# Altium schematic symbol library Isolator.SchLib: 419 symbols (part 4 of 5)
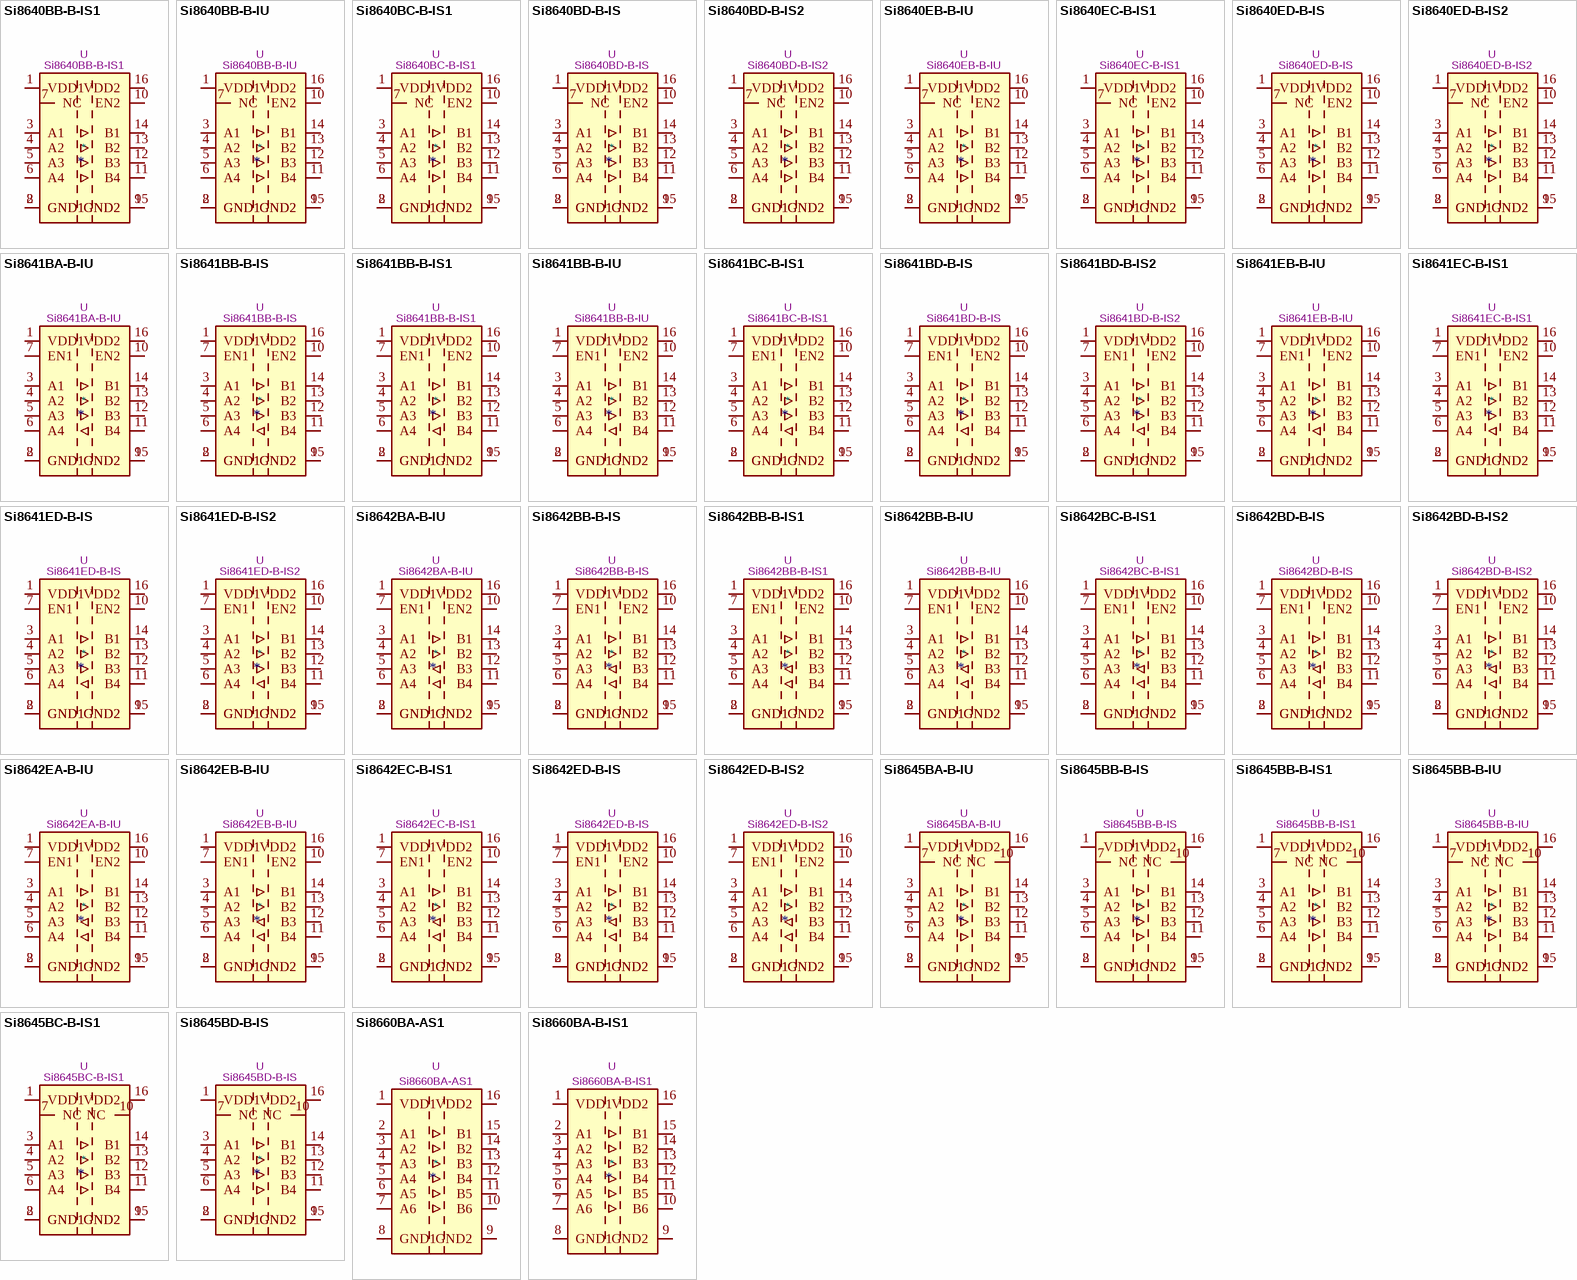
[diagram p15: symbols Si8640BB-B-IS1 to Si8660BA-B-IS1]

## Si8645BB-B-IS
designator *  value Si8645BB-B-IS  Reference: U
Low-Power Quad-Channel Digital Isolator, 150Mbps, 2.5-5.5V, 2.5kV isolation, Fail-Safe Low, SOIC-16W; ki_keywords: 4Ch 4In Quad Digital Isolator 150Mbps; ki_fp_filters: SOIC*7.5x10.3mm*P1.27mm*; Footprint: Package_SO:SOIC-16W_7.5x10.3mm_P1.27mm; Datasheet: https://www.silabs.com/documents/public/data-sheets/si864x-datasheet.pdf; Description_: Low-Power Quad-Channel Digital Isolator, 150Mbps, 2.5-5.5V, 2.5kV isolation, Fail-Safe Low, SOIC-16W
pins: 1 VDD1, 2 GND1, 3 A1, 4 A2, 5 A3, 6 A4, 7 NC, 8 GND1, 9 GND2, 10 NC, 11 B4, 12 B3, 13 B2, 14 B1, 15 GND2, 16 VDD2

## Si8645BB-B-IS1
designator *  value Si8645BB-B-IS1  Reference: U
Low-Power Quad-Channel Digital Isolator, 150Mbps, 2.5-5.5V, 2.5kV isolation, Fail-Safe Low, SOIC-16; ki_keywords: 4Ch 4In Quad Digital Isolator 150Mbps; ki_fp_filters: SOIC*3.9x9.9mm*P1.27mm*; Footprint: Package_SO:SOIC-16_3.9x9.9mm_P1.27mm; Datasheet: https://www.silabs.com/documents/public/data-sheets/si864x-datasheet.pdf; Description_: Low-Power Quad-Channel Digital Isolator, 150Mbps, 2.5-5.5V, 2.5kV isolation, Fail-Safe Low, SOIC-16
pins: 1 VDD1, 2 GND1, 3 A1, 4 A2, 5 A3, 6 A4, 7 NC, 8 GND1, 9 GND2, 10 NC, 11 B4, 12 B3, 13 B2, 14 B1, 15 GND2, 16 VDD2

## Si8645BB-B-IU
designator *  value Si8645BB-B-IU  Reference: U
Low-Power Quad-Channel Digital Isolator, 150Mbps, 2.5-5.5V, 2.5kV isolation, Fail-Safe Low, QSOP-16; ki_keywords: 4Ch 4In Quad Digital Isolator 150Mbps; ki_fp_filters: QSOP*3.9x4.9mm*P0.635mm*; Footprint: Package_SO:QSOP-16_3.9x4.9mm_P0.635mm; Datasheet: https://www.silabs.com/documents/public/data-sheets/si864x-datasheet.pdf; Description_: Low-Power Quad-Channel Digital Isolator, 150Mbps, 2.5-5.5V, 2.5kV isolation, Fail-Safe Low, QSOP-16
pins: 1 VDD1, 2 GND1, 3 A1, 4 A2, 5 A3, 6 A4, 7 NC, 8 GND1, 9 GND2, 10 NC, 11 B4, 12 B3, 13 B2, 14 B1, 15 GND2, 16 VDD2

## Si8645BC-B-IS1
designator *  value Si8645BC-B-IS1  Reference: U
Low-Power Quad-Channel Digital Isolator, 150Mbps, 2.5-5.5V, 3.75kV isolation, Fail-Safe Low, SOIC-16; ki_keywords: 4Ch 4In Quad Digital Isolator 150Mbps; ki_fp_filters: SOIC*3.9x9.9mm*P1.27mm*; Footprint: Package_SO:SOIC-16_3.9x9.9mm_P1.27mm; Datasheet: https://www.silabs.com/documents/public/data-sheets/si864x-datasheet.pdf; Description_: Low-Power Quad-Channel Digital Isolator, 150Mbps, 2.5-5.5V, 3.75kV isolation, Fail-Safe Low, SOIC-16
pins: 1 VDD1, 2 GND1, 3 A1, 4 A2, 5 A3, 6 A4, 7 NC, 8 GND1, 9 GND2, 10 NC, 11 B4, 12 B3, 13 B2, 14 B1, 15 GND2, 16 VDD2

## Si8645BD-B-IS
designator *  value Si8645BD-B-IS  Reference: U
Low-Power Quad-Channel Digital Isolator, 150Mbps, 2.5-5.5V, 5.0kV isolation, Fail-Safe Low, SOIC-16W; ki_keywords: 4Ch 4In Quad Digital Isolator 150Mbps; ki_fp_filters: SOIC*7.5x10.3mm*P1.27mm*; Footprint: Package_SO:SOIC-16W_7.5x10.3mm_P1.27mm; Datasheet: https://www.silabs.com/documents/public/data-sheets/si864x-datasheet.pdf; Description_: Low-Power Quad-Channel Digital Isolator, 150Mbps, 2.5-5.5V, 5.0kV isolation, Fail-Safe Low, SOIC-16W
pins: 1 VDD1, 2 GND1, 3 A1, 4 A2, 5 A3, 6 A4, 7 NC, 8 GND1, 9 GND2, 10 NC, 11 B4, 12 B3, 13 B2, 14 B1, 15 GND2, 16 VDD2

## Si8660BA-AS1
designator *  value Si8660BA-AS1  Reference: U
Low-Power Hex-Channel Digital Isolator, 150Mbps, 2.5-5.5V, 1kV isolation, Fail-Safe Low, SOIC-16; ki_keywords: 6Ch 6In Hex Digital Isolator 150Mbps AEC-Q100; ki_fp_filters: SOIC*3.9x9.9mm*P1.27mm*; Footprint: Package_SO:SOIC-16_3.9x9.9mm_P1.27mm; Datasheet: https://www.skyworksinc.com/-/media/Skyworks/SL/documents/public/data-sheets/Si866x.pdf; Description_: Low-Power Hex-Channel Digital Isolator, 150Mbps, 2.5-5.5V, 1kV isolation, Fail-Safe Low, SOIC-16
pins: 1 VDD1, 2 A1, 3 A2, 4 A3, 5 A4, 6 A5, 7 A6, 8 GND1, 9 GND2, 10 B6, 11 B5, 12 B4, 13 B3, 14 B2, 15 B1, 16 VDD2

## Si8660BA-B-IS1
designator *  value Si8660BA-B-IS1  Reference: U
Low-Power Hex-Channel Digital Isolator, 150Mbps, 2.5-5.5V, 1kV isolation, Fail-Safe Low, SOIC-16; ki_keywords: 6Ch 6In Hex Digital Isolator 150Mbps; ki_fp_filters: SOIC*3.9x9.9mm*P1.27mm*; Footprint: Package_SO:SOIC-16_3.9x9.9mm_P1.27mm; Datasheet: https://www.skyworksinc.com/-/media/Skyworks/SL/documents/public/data-sheets/Si866x.pdf; Description_: Low-Power Hex-Channel Digital Isolator, 150Mbps, 2.5-5.5V, 1kV isolation, Fail-Safe Low, SOIC-16
pins: 1 VDD1, 2 A1, 3 A2, 4 A3, 5 A4, 6 A5, 7 A6, 8 GND1, 9 GND2, 10 B6, 11 B5, 12 B4, 13 B3, 14 B2, 15 B1, 16 VDD2

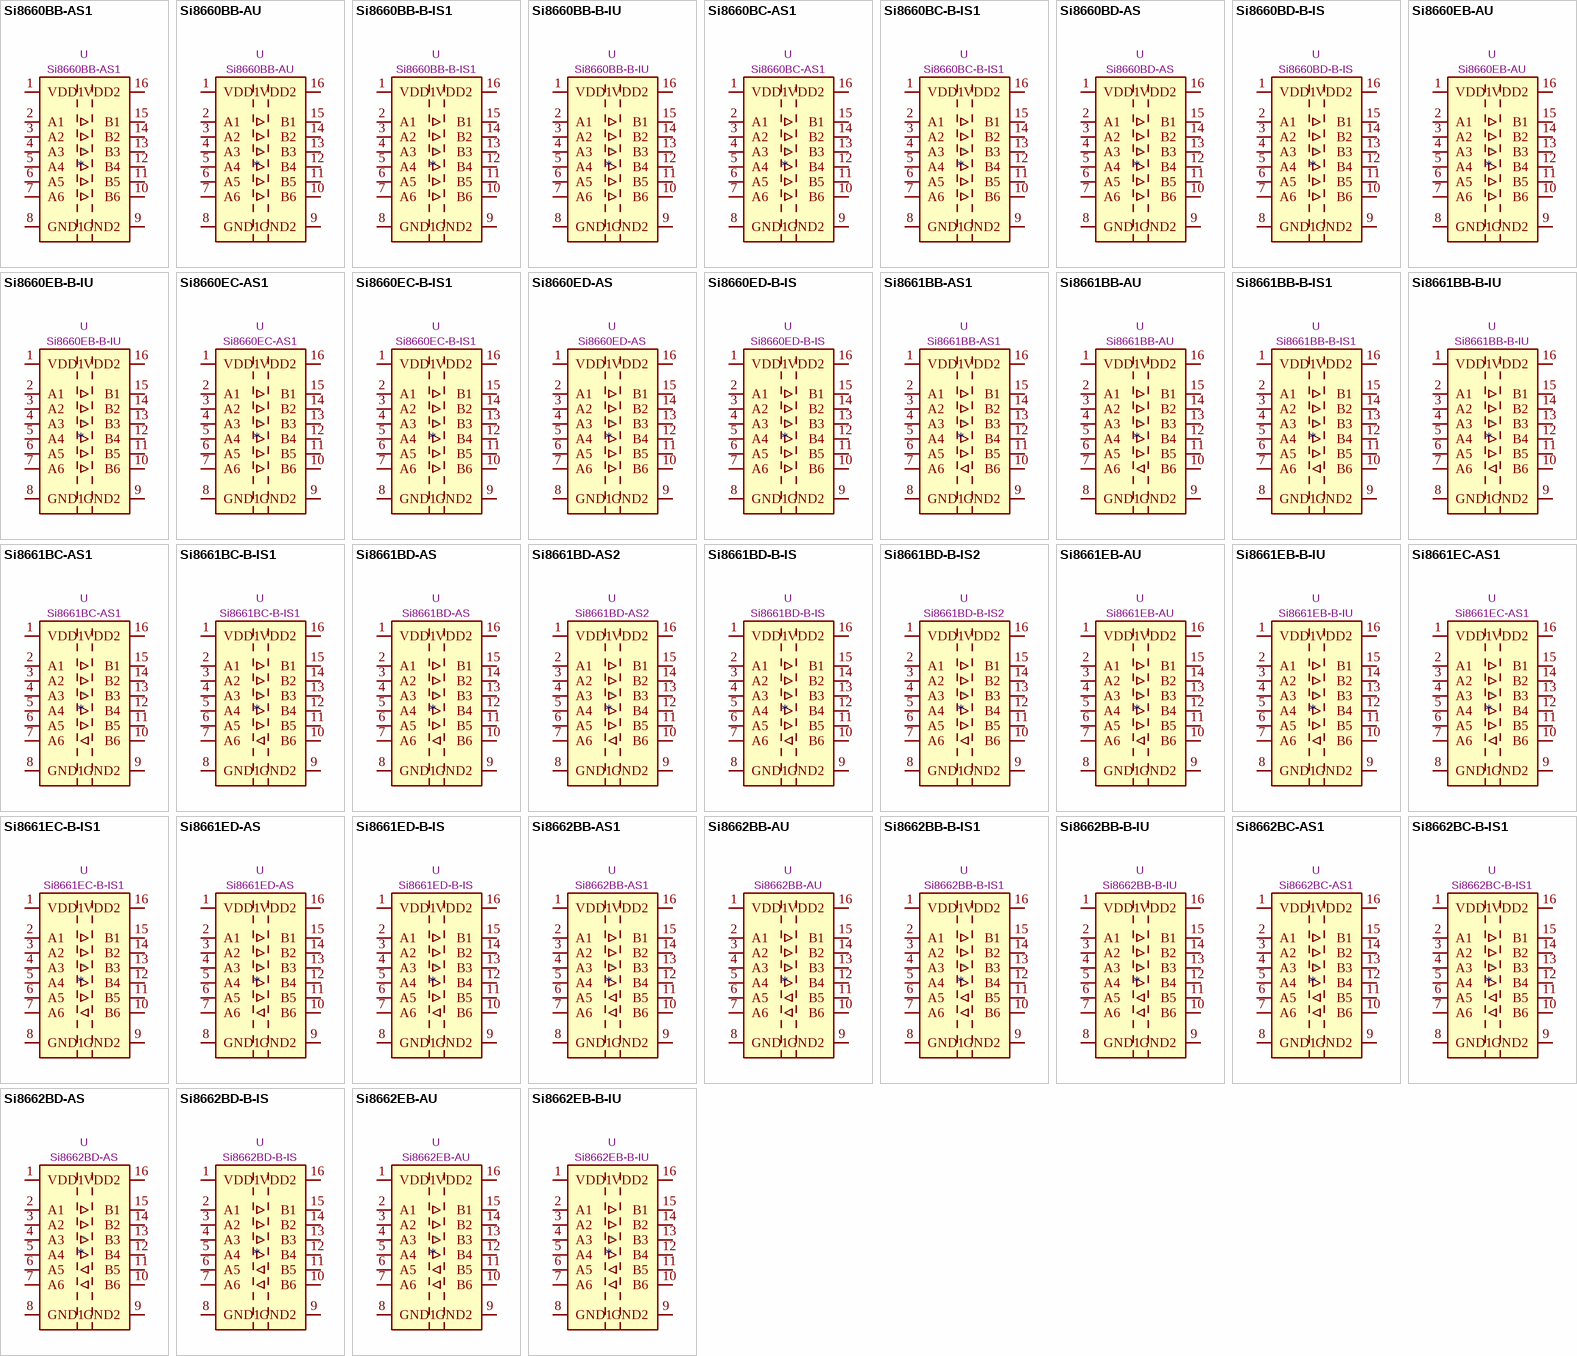
[diagram p8: symbols Si8660BB-AS1 to Si8662EB-B-IU]

## Si8660BB-AS1
designator *  value Si8660BB-AS1  Reference: U
Low-Power Hex-Channel Digital Isolator, 150Mbps, 2.5-5.5V, 2.5kV isolation, Fail-Safe Low, SOIC-16; ki_keywords: 6Ch 6In Hex Digital Isolator 150Mbps AEC-Q100; ki_fp_filters: SOIC*3.9x9.9mm*P1.27mm*; Footprint: Package_SO:SOIC-16_3.9x9.9mm_P1.27mm; Datasheet: https://www.skyworksinc.com/-/media/Skyworks/SL/documents/public/data-sheets/Si866x.pdf; Description_: Low-Power Hex-Channel Digital Isolator, 150Mbps, 2.5-5.5V, 2.5kV isolation, Fail-Safe Low, SOIC-16
pins: 1 VDD1, 2 A1, 3 A2, 4 A3, 5 A4, 6 A5, 7 A6, 8 GND1, 9 GND2, 10 B6, 11 B5, 12 B4, 13 B3, 14 B2, 15 B1, 16 VDD2

## Si8660BB-AU
designator *  value Si8660BB-AU  Reference: U
Low-Power Hex-Channel Digital Isolator, 150Mbps, 2.5-5.5V, 2.5kV isolation, Fail-Safe Low, QSOP-16; ki_keywords: 6Ch 6In Hex Digital Isolator 150Mbps AEC-Q100; ki_fp_filters: QSOP*3.9x4.9mm*P0.635mm*; Footprint: Package_SO:QSOP-16_3.9x4.9mm_P0.635mm; Datasheet: https://www.skyworksinc.com/-/media/Skyworks/SL/documents/public/data-sheets/Si866x.pdf; Description_: Low-Power Hex-Channel Digital Isolator, 150Mbps, 2.5-5.5V, 2.5kV isolation, Fail-Safe Low, QSOP-16
pins: 1 VDD1, 2 A1, 3 A2, 4 A3, 5 A4, 6 A5, 7 A6, 8 GND1, 9 GND2, 10 B6, 11 B5, 12 B4, 13 B3, 14 B2, 15 B1, 16 VDD2

## Si8660BB-B-IS1
designator *  value Si8660BB-B-IS1  Reference: U
Low-Power Hex-Channel Digital Isolator, 150Mbps, 2.5-5.5V, 2.5kV isolation, Fail-Safe Low, SOIC-16; ki_keywords: 6Ch 6In Hex Digital Isolator 150Mbps; ki_fp_filters: SOIC*3.9x9.9mm*P1.27mm*; Footprint: Package_SO:SOIC-16_3.9x9.9mm_P1.27mm; Datasheet: https://www.skyworksinc.com/-/media/Skyworks/SL/documents/public/data-sheets/Si866x.pdf; Description_: Low-Power Hex-Channel Digital Isolator, 150Mbps, 2.5-5.5V, 2.5kV isolation, Fail-Safe Low, SOIC-16
pins: 1 VDD1, 2 A1, 3 A2, 4 A3, 5 A4, 6 A5, 7 A6, 8 GND1, 9 GND2, 10 B6, 11 B5, 12 B4, 13 B3, 14 B2, 15 B1, 16 VDD2

## Si8660BB-B-IU
designator *  value Si8660BB-B-IU  Reference: U
Low-Power Hex-Channel Digital Isolator, 150Mbps, 2.5-5.5V, 2.5kV isolation, Fail-Safe Low, QSOP-16; ki_keywords: 6Ch 6In Hex Digital Isolator 150Mbps; ki_fp_filters: QSOP*3.9x4.9mm*P0.635mm*; Footprint: Package_SO:QSOP-16_3.9x4.9mm_P0.635mm; Datasheet: https://www.skyworksinc.com/-/media/Skyworks/SL/documents/public/data-sheets/Si866x.pdf; Description_: Low-Power Hex-Channel Digital Isolator, 150Mbps, 2.5-5.5V, 2.5kV isolation, Fail-Safe Low, QSOP-16
pins: 1 VDD1, 2 A1, 3 A2, 4 A3, 5 A4, 6 A5, 7 A6, 8 GND1, 9 GND2, 10 B6, 11 B5, 12 B4, 13 B3, 14 B2, 15 B1, 16 VDD2

## Si8660BC-AS1
designator *  value Si8660BC-AS1  Reference: U
Low-Power Hex-Channel Digital Isolator, 150Mbps, 2.5-5.5V, 3.75kV isolation, Fail-Safe Low, SOIC-16; ki_keywords: 6Ch 6In Hex Digital Isolator 150Mbps AEC-Q100; ki_fp_filters: SOIC*3.9x9.9mm*P1.27mm*; Footprint: Package_SO:SOIC-16_3.9x9.9mm_P1.27mm; Datasheet: https://www.skyworksinc.com/-/media/Skyworks/SL/documents/public/data-sheets/Si866x.pdf; Description_: Low-Power Hex-Channel Digital Isolator, 150Mbps, 2.5-5.5V, 3.75kV isolation, Fail-Safe Low, SOIC-16
pins: 1 VDD1, 2 A1, 3 A2, 4 A3, 5 A4, 6 A5, 7 A6, 8 GND1, 9 GND2, 10 B6, 11 B5, 12 B4, 13 B3, 14 B2, 15 B1, 16 VDD2

## Si8660BC-B-IS1
designator *  value Si8660BC-B-IS1  Reference: U
Low-Power Hex-Channel Digital Isolator, 150Mbps, 2.5-5.5V, 3.75kV isolation, Fail-Safe Low, SOIC-16; ki_keywords: 6Ch 6In Hex Digital Isolator 150Mbps; ki_fp_filters: SOIC*3.9x9.9mm*P1.27mm*; Footprint: Package_SO:SOIC-16_3.9x9.9mm_P1.27mm; Datasheet: https://www.skyworksinc.com/-/media/Skyworks/SL/documents/public/data-sheets/Si866x.pdf; Description_: Low-Power Hex-Channel Digital Isolator, 150Mbps, 2.5-5.5V, 3.75kV isolation, Fail-Safe Low, SOIC-16
pins: 1 VDD1, 2 A1, 3 A2, 4 A3, 5 A4, 6 A5, 7 A6, 8 GND1, 9 GND2, 10 B6, 11 B5, 12 B4, 13 B3, 14 B2, 15 B1, 16 VDD2

## Si8660BD-AS
designator *  value Si8660BD-AS  Reference: U
Low-Power Hex-Channel Digital Isolator, 150Mbps, 2.5-5.5V, 5kV isolation, Fail-Safe Low, SOIC-16W; ki_keywords: 6Ch 6In Hex Digital Isolator 150Mbps AEC-Q100; ki_fp_filters: SOIC*7.5x10.3mm*P1.27mm*; Footprint: Package_SO:SOIC-16W_7.5x10.3mm_P1.27mm; Datasheet: https://www.skyworksinc.com/-/media/Skyworks/SL/documents/public/data-sheets/Si866x.pdf; Description_: Low-Power Hex-Channel Digital Isolator, 150Mbps, 2.5-5.5V, 5kV isolation, Fail-Safe Low, SOIC-16W
pins: 1 VDD1, 2 A1, 3 A2, 4 A3, 5 A4, 6 A5, 7 A6, 8 GND1, 9 GND2, 10 B6, 11 B5, 12 B4, 13 B3, 14 B2, 15 B1, 16 VDD2

## Si8660BD-B-IS
designator *  value Si8660BD-B-IS  Reference: U
Low-Power Hex-Channel Digital Isolator, 150Mbps, 2.5-5.5V, 5kV isolation, Fail-Safe Low, SOIC-16W; ki_keywords: 6Ch 6In Hex Digital Isolator 150Mbps; ki_fp_filters: SOIC*7.5x10.3mm*P1.27mm*; Footprint: Package_SO:SOIC-16W_7.5x10.3mm_P1.27mm; Datasheet: https://www.skyworksinc.com/-/media/Skyworks/SL/documents/public/data-sheets/Si866x.pdf; Description_: Low-Power Hex-Channel Digital Isolator, 150Mbps, 2.5-5.5V, 5kV isolation, Fail-Safe Low, SOIC-16W
pins: 1 VDD1, 2 A1, 3 A2, 4 A3, 5 A4, 6 A5, 7 A6, 8 GND1, 9 GND2, 10 B6, 11 B5, 12 B4, 13 B3, 14 B2, 15 B1, 16 VDD2

## Si8660EB-AU
designator *  value Si8660EB-AU  Reference: U
Low-Power Hex-Channel Digital Isolator, 150Mbps, 2.5-5.5V, 2.5kV isolation, Fail-Safe High, QSOP-16; ki_keywords: 6Ch 6In Hex Digital Isolator 150Mbps AEC-Q100; ki_fp_filters: QSOP*3.9x4.9mm*P0.635mm*; Footprint: Package_SO:QSOP-16_3.9x4.9mm_P0.635mm; Datasheet: https://www.skyworksinc.com/-/media/Skyworks/SL/documents/public/data-sheets/Si866x.pdf; Description_: Low-Power Hex-Channel Digital Isolator, 150Mbps, 2.5-5.5V, 2.5kV isolation, Fail-Safe High, QSOP-16
pins: 1 VDD1, 2 A1, 3 A2, 4 A3, 5 A4, 6 A5, 7 A6, 8 GND1, 9 GND2, 10 B6, 11 B5, 12 B4, 13 B3, 14 B2, 15 B1, 16 VDD2

## Si8660EB-B-IU
designator *  value Si8660EB-B-IU  Reference: U
Low-Power Hex-Channel Digital Isolator, 150Mbps, 2.5-5.5V, 2.5kV isolation, Fail-Safe High, QSOP-16; ki_keywords: 6Ch 6In Hex Digital Isolator 150Mbps; ki_fp_filters: QSOP*3.9x4.9mm*P0.635mm*; Footprint: Package_SO:QSOP-16_3.9x4.9mm_P0.635mm; Datasheet: https://www.skyworksinc.com/-/media/Skyworks/SL/documents/public/data-sheets/Si866x.pdf; Description_: Low-Power Hex-Channel Digital Isolator, 150Mbps, 2.5-5.5V, 2.5kV isolation, Fail-Safe High, QSOP-16
pins: 1 VDD1, 2 A1, 3 A2, 4 A3, 5 A4, 6 A5, 7 A6, 8 GND1, 9 GND2, 10 B6, 11 B5, 12 B4, 13 B3, 14 B2, 15 B1, 16 VDD2

## Si8660EC-AS1
designator *  value Si8660EC-AS1  Reference: U
Low-Power Hex-Channel Digital Isolator, 150Mbps, 2.5-5.5V, 3.75kV isolation, Fail-Safe High, SOIC-16; ki_keywords: 6Ch 6In Hex Digital Isolator 150Mbps AEC-Q100; ki_fp_filters: SOIC*3.9x9.9mm*P1.27mm*; Footprint: Package_SO:SOIC-16_3.9x9.9mm_P1.27mm; Datasheet: https://www.skyworksinc.com/-/media/Skyworks/SL/documents/public/data-sheets/Si866x.pdf; Description_: Low-Power Hex-Channel Digital Isolator, 150Mbps, 2.5-5.5V, 3.75kV isolation, Fail-Safe High, SOIC-16
pins: 1 VDD1, 2 A1, 3 A2, 4 A3, 5 A4, 6 A5, 7 A6, 8 GND1, 9 GND2, 10 B6, 11 B5, 12 B4, 13 B3, 14 B2, 15 B1, 16 VDD2

## Si8660EC-B-IS1
designator *  value Si8660EC-B-IS1  Reference: U
Low-Power Hex-Channel Digital Isolator, 150Mbps, 2.5-5.5V, 3.75kV isolation, Fail-Safe High, SOIC-16; ki_keywords: 6Ch 6In Hex Digital Isolator 150Mbps; ki_fp_filters: SOIC*3.9x9.9mm*P1.27mm*; Footprint: Package_SO:SOIC-16_3.9x9.9mm_P1.27mm; Datasheet: https://www.skyworksinc.com/-/media/Skyworks/SL/documents/public/data-sheets/Si866x.pdf; Description_: Low-Power Hex-Channel Digital Isolator, 150Mbps, 2.5-5.5V, 3.75kV isolation, Fail-Safe High, SOIC-16
pins: 1 VDD1, 2 A1, 3 A2, 4 A3, 5 A4, 6 A5, 7 A6, 8 GND1, 9 GND2, 10 B6, 11 B5, 12 B4, 13 B3, 14 B2, 15 B1, 16 VDD2

## Si8660ED-AS
designator *  value Si8660ED-AS  Reference: U
Low-Power Hex-Channel Digital Isolator, 150Mbps, 2.5-5.5V, 5kV isolation, Fail-Safe High, SOIC-16W; ki_keywords: 6Ch 6In Hex Digital Isolator 150Mbps AEC-Q100; ki_fp_filters: SOIC*7.5x10.3mm*P1.27mm*; Footprint: Package_SO:SOIC-16W_7.5x10.3mm_P1.27mm; Datasheet: https://www.skyworksinc.com/-/media/Skyworks/SL/documents/public/data-sheets/Si866x.pdf; Description_: Low-Power Hex-Channel Digital Isolator, 150Mbps, 2.5-5.5V, 5kV isolation, Fail-Safe High, SOIC-16W
pins: 1 VDD1, 2 A1, 3 A2, 4 A3, 5 A4, 6 A5, 7 A6, 8 GND1, 9 GND2, 10 B6, 11 B5, 12 B4, 13 B3, 14 B2, 15 B1, 16 VDD2

## Si8660ED-B-IS
designator *  value Si8660ED-B-IS  Reference: U
Low-Power Hex-Channel Digital Isolator, 150Mbps, 2.5-5.5V, 5kV isolation, Fail-Safe High, SOIC-16W; ki_keywords: 6Ch 6In Hex Digital Isolator 150Mbps; ki_fp_filters: SOIC*7.5x10.3mm*P1.27mm*; Footprint: Package_SO:SOIC-16W_7.5x10.3mm_P1.27mm; Datasheet: https://www.skyworksinc.com/-/media/Skyworks/SL/documents/public/data-sheets/Si866x.pdf; Description_: Low-Power Hex-Channel Digital Isolator, 150Mbps, 2.5-5.5V, 5kV isolation, Fail-Safe High, SOIC-16W
pins: 1 VDD1, 2 A1, 3 A2, 4 A3, 5 A4, 6 A5, 7 A6, 8 GND1, 9 GND2, 10 B6, 11 B5, 12 B4, 13 B3, 14 B2, 15 B1, 16 VDD2

## Si8661BB-AS1
designator *  value Si8661BB-AS1  Reference: U
Low-Power Hex-Channel Digital Isolator, 150Mbps, 2.5-5.5V, 2.5kV isolation, Fail-Safe Low, SOIC-16; ki_keywords: 6Ch 5In 1Out Hex Digital Isolator 150Mbps AEC-Q100; ki_fp_filters: SOIC*3.9x9.9mm*P1.27mm*; Footprint: Package_SO:SOIC-16_3.9x9.9mm_P1.27mm; Datasheet: https://www.skyworksinc.com/-/media/Skyworks/SL/documents/public/data-sheets/Si866x.pdf; Description_: Low-Power Hex-Channel Digital Isolator, 150Mbps, 2.5-5.5V, 2.5kV isolation, Fail-Safe Low, SOIC-16
pins: 1 VDD1, 2 A1, 3 A2, 4 A3, 5 A4, 6 A5, 7 A6, 8 GND1, 9 GND2, 10 B6, 11 B5, 12 B4, 13 B3, 14 B2, 15 B1, 16 VDD2

## Si8661BB-AU
designator *  value Si8661BB-AU  Reference: U
Low-Power Hex-Channel Digital Isolator, 150Mbps, 2.5-5.5V, 2.5kV isolation, Fail-Safe Low, QSOP-16; ki_keywords: 6Ch 5In 1Out Hex Digital Isolator 150Mbps AEC-Q100; ki_fp_filters: QSOP*3.9x4.9mm*P0.635mm*; Footprint: Package_SO:QSOP-16_3.9x4.9mm_P0.635mm; Datasheet: https://www.skyworksinc.com/-/media/Skyworks/SL/documents/public/data-sheets/Si866x.pdf; Description_: Low-Power Hex-Channel Digital Isolator, 150Mbps, 2.5-5.5V, 2.5kV isolation, Fail-Safe Low, QSOP-16
pins: 1 VDD1, 2 A1, 3 A2, 4 A3, 5 A4, 6 A5, 7 A6, 8 GND1, 9 GND2, 10 B6, 11 B5, 12 B4, 13 B3, 14 B2, 15 B1, 16 VDD2

## Si8661BB-B-IS1
designator *  value Si8661BB-B-IS1  Reference: U
Low-Power Hex-Channel Digital Isolator, 150Mbps, 2.5-5.5V, 2.5kV isolation, Fail-Safe Low, SOIC-16; ki_keywords: 6Ch 5In 1Out Hex Digital Isolator 150Mbps; ki_fp_filters: SOIC*3.9x9.9mm*P1.27mm*; Footprint: Package_SO:SOIC-16_3.9x9.9mm_P1.27mm; Datasheet: https://www.skyworksinc.com/-/media/Skyworks/SL/documents/public/data-sheets/Si866x.pdf; Description_: Low-Power Hex-Channel Digital Isolator, 150Mbps, 2.5-5.5V, 2.5kV isolation, Fail-Safe Low, SOIC-16
pins: 1 VDD1, 2 A1, 3 A2, 4 A3, 5 A4, 6 A5, 7 A6, 8 GND1, 9 GND2, 10 B6, 11 B5, 12 B4, 13 B3, 14 B2, 15 B1, 16 VDD2

## Si8661BB-B-IU
designator *  value Si8661BB-B-IU  Reference: U
Low-Power Hex-Channel Digital Isolator, 150Mbps, 2.5-5.5V, 2.5kV isolation, Fail-Safe Low, QSOP-16; ki_keywords: 6Ch 5In 1Out Hex Digital Isolator 150Mbps; ki_fp_filters: QSOP*3.9x4.9mm*P0.635mm*; Footprint: Package_SO:QSOP-16_3.9x4.9mm_P0.635mm; Datasheet: https://www.skyworksinc.com/-/media/Skyworks/SL/documents/public/data-sheets/Si866x.pdf; Description_: Low-Power Hex-Channel Digital Isolator, 150Mbps, 2.5-5.5V, 2.5kV isolation, Fail-Safe Low, QSOP-16
pins: 1 VDD1, 2 A1, 3 A2, 4 A3, 5 A4, 6 A5, 7 A6, 8 GND1, 9 GND2, 10 B6, 11 B5, 12 B4, 13 B3, 14 B2, 15 B1, 16 VDD2

## Si8661BC-AS1
designator *  value Si8661BC-AS1  Reference: U
Low-Power Hex-Channel Digital Isolator, 150Mbps, 2.5-5.5V, 3.75kV isolation, Fail-Safe Low, SOIC-16; ki_keywords: 6Ch 5In 1Out Hex Digital Isolator 150Mbps AEC-Q100; ki_fp_filters: SOIC*3.9x9.9mm*P1.27mm*; Footprint: Package_SO:SOIC-16_3.9x9.9mm_P1.27mm; Datasheet: https://www.skyworksinc.com/-/media/Skyworks/SL/documents/public/data-sheets/Si866x.pdf; Description_: Low-Power Hex-Channel Digital Isolator, 150Mbps, 2.5-5.5V, 3.75kV isolation, Fail-Safe Low, SOIC-16
pins: 1 VDD1, 2 A1, 3 A2, 4 A3, 5 A4, 6 A5, 7 A6, 8 GND1, 9 GND2, 10 B6, 11 B5, 12 B4, 13 B3, 14 B2, 15 B1, 16 VDD2

## Si8661BC-B-IS1
designator *  value Si8661BC-B-IS1  Reference: U
Low-Power Hex-Channel Digital Isolator, 150Mbps, 2.5-5.5V, 3.75kV isolation, Fail-Safe Low, SOIC-16; ki_keywords: 6Ch 5In 1Out Hex Digital Isolator 150Mbps; ki_fp_filters: SOIC*3.9x9.9mm*P1.27mm*; Footprint: Package_SO:SOIC-16_3.9x9.9mm_P1.27mm; Datasheet: https://www.skyworksinc.com/-/media/Skyworks/SL/documents/public/data-sheets/Si866x.pdf; Description_: Low-Power Hex-Channel Digital Isolator, 150Mbps, 2.5-5.5V, 3.75kV isolation, Fail-Safe Low, SOIC-16
pins: 1 VDD1, 2 A1, 3 A2, 4 A3, 5 A4, 6 A5, 7 A6, 8 GND1, 9 GND2, 10 B6, 11 B5, 12 B4, 13 B3, 14 B2, 15 B1, 16 VDD2

## Si8661BD-AS
designator *  value Si8661BD-AS  Reference: U
Low-Power Hex-Channel Digital Isolator, 150Mbps, 2.5-5.5V, 5kV isolation, Fail-Safe Low, SOIC-16W; ki_keywords: 6Ch 5In 1Out Hex Digital Isolator 150Mbps AEC-Q100; ki_fp_filters: SOIC*7.5x10.3mm*P1.27mm*; Footprint: Package_SO:SOIC-16W_7.5x10.3mm_P1.27mm; Datasheet: https://www.skyworksinc.com/-/media/Skyworks/SL/documents/public/data-sheets/Si866x.pdf; Description_: Low-Power Hex-Channel Digital Isolator, 150Mbps, 2.5-5.5V, 5kV isolation, Fail-Safe Low, SOIC-16W
pins: 1 VDD1, 2 A1, 3 A2, 4 A3, 5 A4, 6 A5, 7 A6, 8 GND1, 9 GND2, 10 B6, 11 B5, 12 B4, 13 B3, 14 B2, 15 B1, 16 VDD2

## Si8661BD-AS2
designator *  value Si8661BD-AS2  Reference: U
Low-Power Hex-Channel Digital Isolator, 150Mbps, 2.5-5.5V, 5kV isolation, Fail-Safe Low, 8mm creepage, SOIC-16W; ki_keywords: 6Ch 5In 1Out Hex Digital Isolator 150Mbps AEC-Q100; ki_fp_filters: SOIC*7.5x10.3mm*P1.27mm*; Footprint: Package_SO:SOIC-16W_7.5x10.3mm_P1.27mm; Datasheet: https://www.skyworksinc.com/-/media/Skyworks/SL/documents/public/data-sheets/Si866x.pdf; Description_: Low-Power Hex-Channel Digital Isolator, 150Mbps, 2.5-5.5V, 5kV isolation, Fail-Safe Low, 8mm creepage, SOIC-16W
pins: 1 VDD1, 2 A1, 3 A2, 4 A3, 5 A4, 6 A5, 7 A6, 8 GND1, 9 GND2, 10 B6, 11 B5, 12 B4, 13 B3, 14 B2, 15 B1, 16 VDD2

## Si8661BD-B-IS
designator *  value Si8661BD-B-IS  Reference: U
Low-Power Hex-Channel Digital Isolator, 150Mbps, 2.5-5.5V, 5kV isolation, Fail-Safe Low, SOIC-16W; ki_keywords: 6Ch 5In 1Out Hex Digital Isolator 150Mbps; ki_fp_filters: SOIC*7.5x10.3mm*P1.27mm*; Footprint: Package_SO:SOIC-16W_7.5x10.3mm_P1.27mm; Datasheet: https://www.skyworksinc.com/-/media/Skyworks/SL/documents/public/data-sheets/Si866x.pdf; Description_: Low-Power Hex-Channel Digital Isolator, 150Mbps, 2.5-5.5V, 5kV isolation, Fail-Safe Low, SOIC-16W
pins: 1 VDD1, 2 A1, 3 A2, 4 A3, 5 A4, 6 A5, 7 A6, 8 GND1, 9 GND2, 10 B6, 11 B5, 12 B4, 13 B3, 14 B2, 15 B1, 16 VDD2

## Si8661BD-B-IS2
designator *  value Si8661BD-B-IS2  Reference: U
Low-Power Hex-Channel Digital Isolator, 150Mbps, 2.5-5.5V, 5kV isolation, Fail-Safe Low, 8mm creepage, SOIC-16W; ki_keywords: 6Ch 5In 1Out Hex Digital Isolator 150Mbps; ki_fp_filters: SOIC*7.5x10.3mm*P1.27mm*; Footprint: Package_SO:SOIC-16W_7.5x10.3mm_P1.27mm; Datasheet: https://www.skyworksinc.com/-/media/Skyworks/SL/documents/public/data-sheets/Si866x.pdf; Description_: Low-Power Hex-Channel Digital Isolator, 150Mbps, 2.5-5.5V, 5kV isolation, Fail-Safe Low, 8mm creepage, SOIC-16W
pins: 1 VDD1, 2 A1, 3 A2, 4 A3, 5 A4, 6 A5, 7 A6, 8 GND1, 9 GND2, 10 B6, 11 B5, 12 B4, 13 B3, 14 B2, 15 B1, 16 VDD2

## Si8661EB-AU
designator *  value Si8661EB-AU  Reference: U
Low-Power Hex-Channel Digital Isolator, 150Mbps, 2.5-5.5V, 2.5kV isolation, Fail-Safe High, QSOP-16; ki_keywords: 6Ch 5In 1Out Hex Digital Isolator 150Mbps AEC-Q100; ki_fp_filters: QSOP*3.9x4.9mm*P0.635mm*; Footprint: Package_SO:QSOP-16_3.9x4.9mm_P0.635mm; Datasheet: https://www.skyworksinc.com/-/media/Skyworks/SL/documents/public/data-sheets/Si866x.pdf; Description_: Low-Power Hex-Channel Digital Isolator, 150Mbps, 2.5-5.5V, 2.5kV isolation, Fail-Safe High, QSOP-16
pins: 1 VDD1, 2 A1, 3 A2, 4 A3, 5 A4, 6 A5, 7 A6, 8 GND1, 9 GND2, 10 B6, 11 B5, 12 B4, 13 B3, 14 B2, 15 B1, 16 VDD2

## Si8661EB-B-IU
designator *  value Si8661EB-B-IU  Reference: U
Low-Power Hex-Channel Digital Isolator, 150Mbps, 2.5-5.5V, 2.5kV isolation, Fail-Safe High, QSOP-16; ki_keywords: 6Ch 5In 1Out Hex Digital Isolator 150Mbps; ki_fp_filters: QSOP*3.9x4.9mm*P0.635mm*; Footprint: Package_SO:QSOP-16_3.9x4.9mm_P0.635mm; Datasheet: https://www.skyworksinc.com/-/media/Skyworks/SL/documents/public/data-sheets/Si866x.pdf; Description_: Low-Power Hex-Channel Digital Isolator, 150Mbps, 2.5-5.5V, 2.5kV isolation, Fail-Safe High, QSOP-16
pins: 1 VDD1, 2 A1, 3 A2, 4 A3, 5 A4, 6 A5, 7 A6, 8 GND1, 9 GND2, 10 B6, 11 B5, 12 B4, 13 B3, 14 B2, 15 B1, 16 VDD2

## Si8661EC-AS1
designator *  value Si8661EC-AS1  Reference: U
Low-Power Hex-Channel Digital Isolator, 150Mbps, 2.5-5.5V, 3.75kV isolation, Fail-Safe High, SOIC-16; ki_keywords: 6Ch 5In 1Out Hex Digital Isolator 150Mbps AEC-Q100; ki_fp_filters: SOIC*3.9x9.9mm*P1.27mm*; Footprint: Package_SO:SOIC-16_3.9x9.9mm_P1.27mm; Datasheet: https://www.skyworksinc.com/-/media/Skyworks/SL/documents/public/data-sheets/Si866x.pdf; Description_: Low-Power Hex-Channel Digital Isolator, 150Mbps, 2.5-5.5V, 3.75kV isolation, Fail-Safe High, SOIC-16
pins: 1 VDD1, 2 A1, 3 A2, 4 A3, 5 A4, 6 A5, 7 A6, 8 GND1, 9 GND2, 10 B6, 11 B5, 12 B4, 13 B3, 14 B2, 15 B1, 16 VDD2

## Si8661EC-B-IS1
designator *  value Si8661EC-B-IS1  Reference: U
Low-Power Hex-Channel Digital Isolator, 150Mbps, 2.5-5.5V, 3.75kV isolation, Fail-Safe High, SOIC-16; ki_keywords: 6Ch 5In 1Out Hex Digital Isolator 150Mbps; ki_fp_filters: SOIC*3.9x9.9mm*P1.27mm*; Footprint: Package_SO:SOIC-16_3.9x9.9mm_P1.27mm; Datasheet: https://www.skyworksinc.com/-/media/Skyworks/SL/documents/public/data-sheets/Si866x.pdf; Description_: Low-Power Hex-Channel Digital Isolator, 150Mbps, 2.5-5.5V, 3.75kV isolation, Fail-Safe High, SOIC-16
pins: 1 VDD1, 2 A1, 3 A2, 4 A3, 5 A4, 6 A5, 7 A6, 8 GND1, 9 GND2, 10 B6, 11 B5, 12 B4, 13 B3, 14 B2, 15 B1, 16 VDD2

## Si8661ED-AS
designator *  value Si8661ED-AS  Reference: U
Low-Power Hex-Channel Digital Isolator, 150Mbps, 2.5-5.5V, 5kV isolation, Fail-Safe High, SOIC-16W; ki_keywords: 6Ch 5In 1Out Hex Digital Isolator 150Mbps AEC-Q100; ki_fp_filters: SOIC*7.5x10.3mm*P1.27mm*; Footprint: Package_SO:SOIC-16W_7.5x10.3mm_P1.27mm; Datasheet: https://www.skyworksinc.com/-/media/Skyworks/SL/documents/public/data-sheets/Si866x.pdf; Description_: Low-Power Hex-Channel Digital Isolator, 150Mbps, 2.5-5.5V, 5kV isolation, Fail-Safe High, SOIC-16W
pins: 1 VDD1, 2 A1, 3 A2, 4 A3, 5 A4, 6 A5, 7 A6, 8 GND1, 9 GND2, 10 B6, 11 B5, 12 B4, 13 B3, 14 B2, 15 B1, 16 VDD2

## Si8661ED-B-IS
designator *  value Si8661ED-B-IS  Reference: U
Low-Power Hex-Channel Digital Isolator, 150Mbps, 2.5-5.5V, 5kV isolation, Fail-Safe High, SOIC-16W; ki_keywords: 6Ch 5In 1Out Hex Digital Isolator 150Mbps; ki_fp_filters: SOIC*7.5x10.3mm*P1.27mm*; Footprint: Package_SO:SOIC-16W_7.5x10.3mm_P1.27mm; Datasheet: https://www.skyworksinc.com/-/media/Skyworks/SL/documents/public/data-sheets/Si866x.pdf; Description_: Low-Power Hex-Channel Digital Isolator, 150Mbps, 2.5-5.5V, 5kV isolation, Fail-Safe High, SOIC-16W
pins: 1 VDD1, 2 A1, 3 A2, 4 A3, 5 A4, 6 A5, 7 A6, 8 GND1, 9 GND2, 10 B6, 11 B5, 12 B4, 13 B3, 14 B2, 15 B1, 16 VDD2

## Si8662BB-AS1
designator *  value Si8662BB-AS1  Reference: U
Low-Power Hex-Channel Digital Isolator, 150Mbps, 2.5-5.5V, 2.5kV isolation, Fail-Safe Low, SOIC-16; ki_keywords: 6Ch 4In 2Out Hex Digital Isolator 150Mbps AEC-Q100; ki_fp_filters: SOIC*3.9x9.9mm*P1.27mm*; Footprint: Package_SO:SOIC-16_3.9x9.9mm_P1.27mm; Datasheet: https://www.skyworksinc.com/-/media/Skyworks/SL/documents/public/data-sheets/Si866x.pdf; Description_: Low-Power Hex-Channel Digital Isolator, 150Mbps, 2.5-5.5V, 2.5kV isolation, Fail-Safe Low, SOIC-16
pins: 1 VDD1, 2 A1, 3 A2, 4 A3, 5 A4, 6 A5, 7 A6, 8 GND1, 9 GND2, 10 B6, 11 B5, 12 B4, 13 B3, 14 B2, 15 B1, 16 VDD2

## Si8662BB-AU
designator *  value Si8662BB-AU  Reference: U
Low-Power Hex-Channel Digital Isolator, 150Mbps, 2.5-5.5V, 2.5kV isolation, Fail-Safe Low, QSOP-16; ki_keywords: 6Ch 4In 2Out Hex Digital Isolator 150Mbps AEC-Q100; ki_fp_filters: QSOP*3.9x4.9mm*P0.635mm*; Footprint: Package_SO:QSOP-16_3.9x4.9mm_P0.635mm; Datasheet: https://www.skyworksinc.com/-/media/Skyworks/SL/documents/public/data-sheets/Si866x.pdf; Description_: Low-Power Hex-Channel Digital Isolator, 150Mbps, 2.5-5.5V, 2.5kV isolation, Fail-Safe Low, QSOP-16
pins: 1 VDD1, 2 A1, 3 A2, 4 A3, 5 A4, 6 A5, 7 A6, 8 GND1, 9 GND2, 10 B6, 11 B5, 12 B4, 13 B3, 14 B2, 15 B1, 16 VDD2

## Si8662BB-B-IS1
designator *  value Si8662BB-B-IS1  Reference: U
Low-Power Hex-Channel Digital Isolator, 150Mbps, 2.5-5.5V, 2.5kV isolation, Fail-Safe Low, SOIC-16; ki_keywords: 6Ch 4In 2Out Hex Digital Isolator 150Mbps; ki_fp_filters: SOIC*3.9x9.9mm*P1.27mm*; Footprint: Package_SO:SOIC-16_3.9x9.9mm_P1.27mm; Datasheet: https://www.skyworksinc.com/-/media/Skyworks/SL/documents/public/data-sheets/Si866x.pdf; Description_: Low-Power Hex-Channel Digital Isolator, 150Mbps, 2.5-5.5V, 2.5kV isolation, Fail-Safe Low, SOIC-16
pins: 1 VDD1, 2 A1, 3 A2, 4 A3, 5 A4, 6 A5, 7 A6, 8 GND1, 9 GND2, 10 B6, 11 B5, 12 B4, 13 B3, 14 B2, 15 B1, 16 VDD2

## Si8662BB-B-IU
designator *  value Si8662BB-B-IU  Reference: U
Low-Power Hex-Channel Digital Isolator, 150Mbps, 2.5-5.5V, 2.5kV isolation, Fail-Safe Low, QSOP-16; ki_keywords: 6Ch 4In 2Out Hex Digital Isolator 150Mbps; ki_fp_filters: QSOP*3.9x4.9mm*P0.635mm*; Footprint: Package_SO:QSOP-16_3.9x4.9mm_P0.635mm; Datasheet: https://www.skyworksinc.com/-/media/Skyworks/SL/documents/public/data-sheets/Si866x.pdf; Description_: Low-Power Hex-Channel Digital Isolator, 150Mbps, 2.5-5.5V, 2.5kV isolation, Fail-Safe Low, QSOP-16
pins: 1 VDD1, 2 A1, 3 A2, 4 A3, 5 A4, 6 A5, 7 A6, 8 GND1, 9 GND2, 10 B6, 11 B5, 12 B4, 13 B3, 14 B2, 15 B1, 16 VDD2

## Si8662BC-AS1
designator *  value Si8662BC-AS1  Reference: U
Low-Power Hex-Channel Digital Isolator, 150Mbps, 2.5-5.5V, 3.75kV isolation, Fail-Safe Low, SOIC-16; ki_keywords: 6Ch 4In 2Out Hex Digital Isolator 150Mbps AEC-Q100; ki_fp_filters: SOIC*3.9x9.9mm*P1.27mm*; Footprint: Package_SO:SOIC-16_3.9x9.9mm_P1.27mm; Datasheet: https://www.skyworksinc.com/-/media/Skyworks/SL/documents/public/data-sheets/Si866x.pdf; Description_: Low-Power Hex-Channel Digital Isolator, 150Mbps, 2.5-5.5V, 3.75kV isolation, Fail-Safe Low, SOIC-16
pins: 1 VDD1, 2 A1, 3 A2, 4 A3, 5 A4, 6 A5, 7 A6, 8 GND1, 9 GND2, 10 B6, 11 B5, 12 B4, 13 B3, 14 B2, 15 B1, 16 VDD2

## Si8662BC-B-IS1
designator *  value Si8662BC-B-IS1  Reference: U
Low-Power Hex-Channel Digital Isolator, 150Mbps, 2.5-5.5V, 3.75kV isolation, Fail-Safe Low, SOIC-16; ki_keywords: 6Ch 4In 2Out Hex Digital Isolator 150Mbps; ki_fp_filters: SOIC*3.9x9.9mm*P1.27mm*; Footprint: Package_SO:SOIC-16_3.9x9.9mm_P1.27mm; Datasheet: https://www.skyworksinc.com/-/media/Skyworks/SL/documents/public/data-sheets/Si866x.pdf; Description_: Low-Power Hex-Channel Digital Isolator, 150Mbps, 2.5-5.5V, 3.75kV isolation, Fail-Safe Low, SOIC-16
pins: 1 VDD1, 2 A1, 3 A2, 4 A3, 5 A4, 6 A5, 7 A6, 8 GND1, 9 GND2, 10 B6, 11 B5, 12 B4, 13 B3, 14 B2, 15 B1, 16 VDD2

## Si8662BD-AS
designator *  value Si8662BD-AS  Reference: U
Low-Power Hex-Channel Digital Isolator, 150Mbps, 2.5-5.5V, 5kV isolation, Fail-Safe Low, SOIC-16W; ki_keywords: 6Ch 4In 2Out Hex Digital Isolator 150Mbps AEC-Q100; ki_fp_filters: SOIC*7.5x10.3mm*P1.27mm*; Footprint: Package_SO:SOIC-16W_7.5x10.3mm_P1.27mm; Datasheet: https://www.skyworksinc.com/-/media/Skyworks/SL/documents/public/data-sheets/Si866x.pdf; Description_: Low-Power Hex-Channel Digital Isolator, 150Mbps, 2.5-5.5V, 5kV isolation, Fail-Safe Low, SOIC-16W
pins: 1 VDD1, 2 A1, 3 A2, 4 A3, 5 A4, 6 A5, 7 A6, 8 GND1, 9 GND2, 10 B6, 11 B5, 12 B4, 13 B3, 14 B2, 15 B1, 16 VDD2

## Si8662BD-B-IS
designator *  value Si8662BD-B-IS  Reference: U
Low-Power Hex-Channel Digital Isolator, 150Mbps, 2.5-5.5V, 5kV isolation, Fail-Safe Low, SOIC-16W; ki_keywords: 6Ch 4In 2Out Hex Digital Isolator 150Mbps; ki_fp_filters: SOIC*7.5x10.3mm*P1.27mm*; Footprint: Package_SO:SOIC-16W_7.5x10.3mm_P1.27mm; Datasheet: https://www.skyworksinc.com/-/media/Skyworks/SL/documents/public/data-sheets/Si866x.pdf; Description_: Low-Power Hex-Channel Digital Isolator, 150Mbps, 2.5-5.5V, 5kV isolation, Fail-Safe Low, SOIC-16W
pins: 1 VDD1, 2 A1, 3 A2, 4 A3, 5 A4, 6 A5, 7 A6, 8 GND1, 9 GND2, 10 B6, 11 B5, 12 B4, 13 B3, 14 B2, 15 B1, 16 VDD2

## Si8662EB-AU
designator *  value Si8662EB-AU  Reference: U
Low-Power Hex-Channel Digital Isolator, 150Mbps, 2.5-5.5V, 2.5kV isolation, Fail-Safe High, QSOP-16; ki_keywords: 6Ch 4In 2Out Hex Digital Isolator 150Mbps AEC-Q100; ki_fp_filters: QSOP*3.9x4.9mm*P0.635mm*; Footprint: Package_SO:QSOP-16_3.9x4.9mm_P0.635mm; Datasheet: https://www.skyworksinc.com/-/media/Skyworks/SL/documents/public/data-sheets/Si866x.pdf; Description_: Low-Power Hex-Channel Digital Isolator, 150Mbps, 2.5-5.5V, 2.5kV isolation, Fail-Safe High, QSOP-16
pins: 1 VDD1, 2 A1, 3 A2, 4 A3, 5 A4, 6 A5, 7 A6, 8 GND1, 9 GND2, 10 B6, 11 B5, 12 B4, 13 B3, 14 B2, 15 B1, 16 VDD2

## Si8662EB-B-IU
designator *  value Si8662EB-B-IU  Reference: U
Low-Power Hex-Channel Digital Isolator, 150Mbps, 2.5-5.5V, 2.5kV isolation, Fail-Safe High, QSOP-16; ki_keywords: 6Ch 4In 2Out Hex Digital Isolator 150Mbps; ki_fp_filters: QSOP*3.9x4.9mm*P0.635mm*; Footprint: Package_SO:QSOP-16_3.9x4.9mm_P0.635mm; Datasheet: https://www.skyworksinc.com/-/media/Skyworks/SL/documents/public/data-sheets/Si866x.pdf; Description_: Low-Power Hex-Channel Digital Isolator, 150Mbps, 2.5-5.5V, 2.5kV isolation, Fail-Safe High, QSOP-16
pins: 1 VDD1, 2 A1, 3 A2, 4 A3, 5 A4, 6 A5, 7 A6, 8 GND1, 9 GND2, 10 B6, 11 B5, 12 B4, 13 B3, 14 B2, 15 B1, 16 VDD2

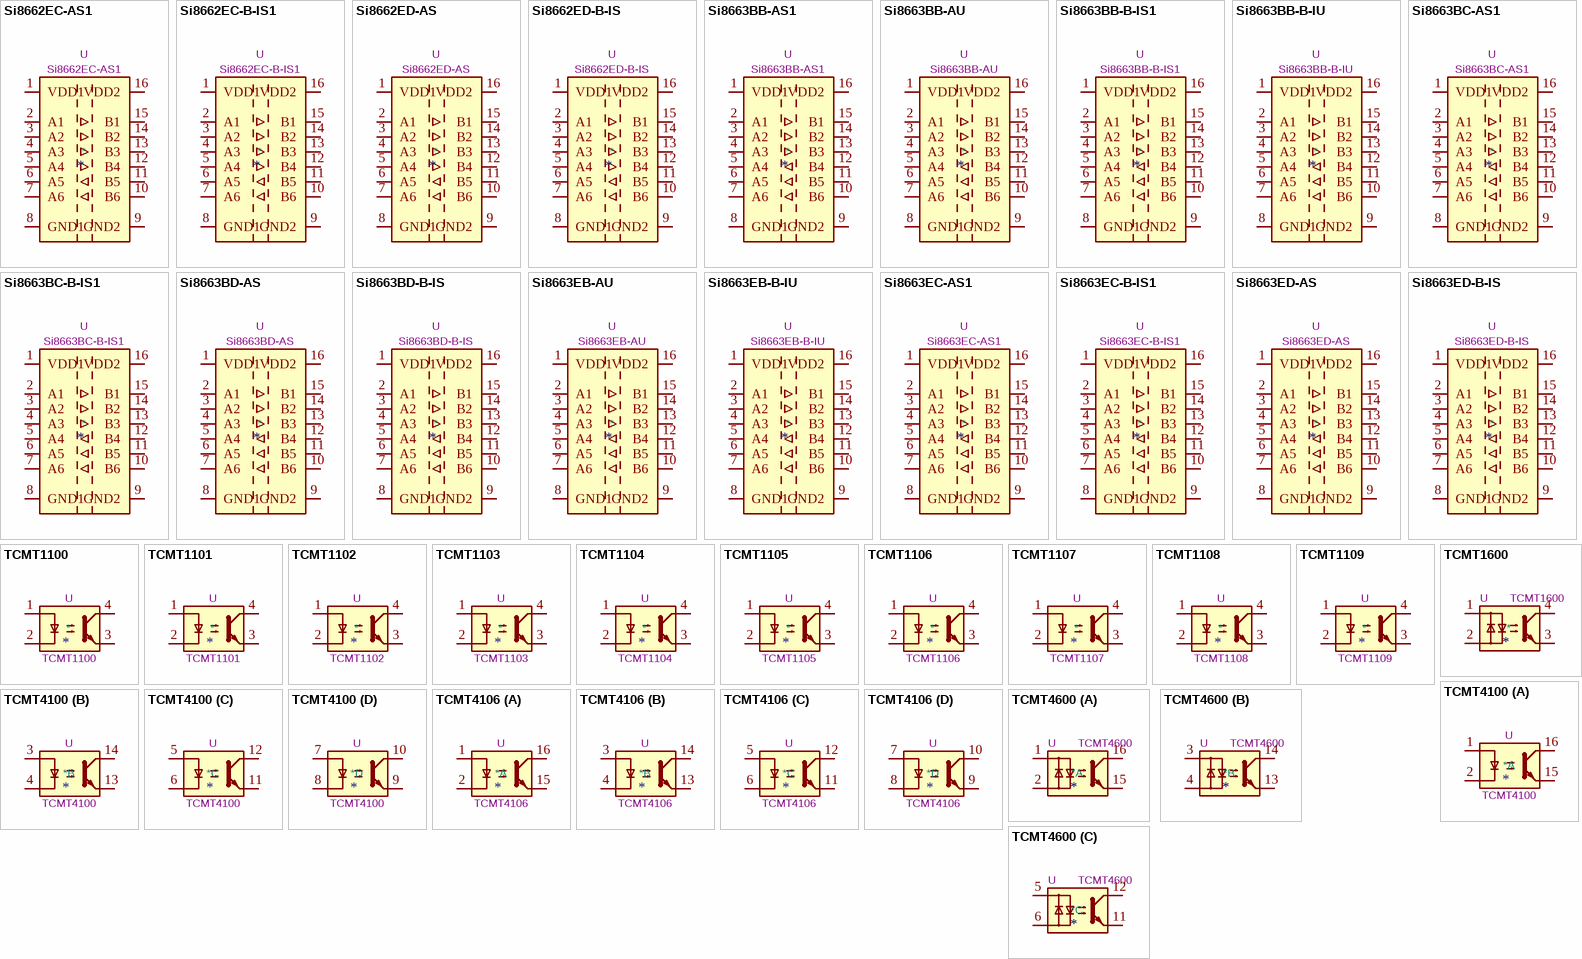
[diagram p9: symbols Si8662EC-AS1 to TCMT4600]

## Si8662EC-AS1
designator *  value Si8662EC-AS1  Reference: U
Low-Power Hex-Channel Digital Isolator, 150Mbps, 2.5-5.5V, 3.75kV isolation, Fail-Safe High, SOIC-16; ki_keywords: 6Ch 4In 2Out Hex Digital Isolator 150Mbps AEC-Q100; ki_fp_filters: SOIC*3.9x9.9mm*P1.27mm*; Footprint: Package_SO:SOIC-16_3.9x9.9mm_P1.27mm; Datasheet: https://www.skyworksinc.com/-/media/Skyworks/SL/documents/public/data-sheets/Si866x.pdf; Description_: Low-Power Hex-Channel Digital Isolator, 150Mbps, 2.5-5.5V, 3.75kV isolation, Fail-Safe High, SOIC-16
pins: 1 VDD1, 2 A1, 3 A2, 4 A3, 5 A4, 6 A5, 7 A6, 8 GND1, 9 GND2, 10 B6, 11 B5, 12 B4, 13 B3, 14 B2, 15 B1, 16 VDD2

## Si8662EC-B-IS1
designator *  value Si8662EC-B-IS1  Reference: U
Low-Power Hex-Channel Digital Isolator, 150Mbps, 2.5-5.5V, 3.75kV isolation, Fail-Safe High, SOIC-16; ki_keywords: 6Ch 4In 2Out Hex Digital Isolator 150Mbps; ki_fp_filters: SOIC*3.9x9.9mm*P1.27mm*; Footprint: Package_SO:SOIC-16_3.9x9.9mm_P1.27mm; Datasheet: https://www.skyworksinc.com/-/media/Skyworks/SL/documents/public/data-sheets/Si866x.pdf; Description_: Low-Power Hex-Channel Digital Isolator, 150Mbps, 2.5-5.5V, 3.75kV isolation, Fail-Safe High, SOIC-16
pins: 1 VDD1, 2 A1, 3 A2, 4 A3, 5 A4, 6 A5, 7 A6, 8 GND1, 9 GND2, 10 B6, 11 B5, 12 B4, 13 B3, 14 B2, 15 B1, 16 VDD2

## Si8662ED-AS
designator *  value Si8662ED-AS  Reference: U
Low-Power Hex-Channel Digital Isolator, 150Mbps, 2.5-5.5V, 5kV isolation, Fail-Safe High, SOIC-16W; ki_keywords: 6Ch 4In 2Out Hex Digital Isolator 150Mbps AEC-Q100; ki_fp_filters: SOIC*7.5x10.3mm*P1.27mm*; Footprint: Package_SO:SOIC-16W_7.5x10.3mm_P1.27mm; Datasheet: https://www.skyworksinc.com/-/media/Skyworks/SL/documents/public/data-sheets/Si866x.pdf; Description_: Low-Power Hex-Channel Digital Isolator, 150Mbps, 2.5-5.5V, 5kV isolation, Fail-Safe High, SOIC-16W
pins: 1 VDD1, 2 A1, 3 A2, 4 A3, 5 A4, 6 A5, 7 A6, 8 GND1, 9 GND2, 10 B6, 11 B5, 12 B4, 13 B3, 14 B2, 15 B1, 16 VDD2

## Si8662ED-B-IS
designator *  value Si8662ED-B-IS  Reference: U
Low-Power Hex-Channel Digital Isolator, 150Mbps, 2.5-5.5V, 5kV isolation, Fail-Safe High, SOIC-16W; ki_keywords: 6Ch 4In 2Out Hex Digital Isolator 150Mbps; ki_fp_filters: SOIC*7.5x10.3mm*P1.27mm*; Footprint: Package_SO:SOIC-16W_7.5x10.3mm_P1.27mm; Datasheet: https://www.skyworksinc.com/-/media/Skyworks/SL/documents/public/data-sheets/Si866x.pdf; Description_: Low-Power Hex-Channel Digital Isolator, 150Mbps, 2.5-5.5V, 5kV isolation, Fail-Safe High, SOIC-16W
pins: 1 VDD1, 2 A1, 3 A2, 4 A3, 5 A4, 6 A5, 7 A6, 8 GND1, 9 GND2, 10 B6, 11 B5, 12 B4, 13 B3, 14 B2, 15 B1, 16 VDD2

## Si8663BB-AS1
designator *  value Si8663BB-AS1  Reference: U
Low-Power Hex-Channel Digital Isolator, 150Mbps, 2.5-5.5V, 2.5kV isolation, Fail-Safe Low, SOIC-16; ki_keywords: 6Ch 3In 3Out Hex Digital Isolator 150Mbps AEC-Q100; ki_fp_filters: SOIC*3.9x9.9mm*P1.27mm*; Footprint: Package_SO:SOIC-16_3.9x9.9mm_P1.27mm; Datasheet: https://www.skyworksinc.com/-/media/Skyworks/SL/documents/public/data-sheets/Si866x.pdf; Description_: Low-Power Hex-Channel Digital Isolator, 150Mbps, 2.5-5.5V, 2.5kV isolation, Fail-Safe Low, SOIC-16
pins: 1 VDD1, 2 A1, 3 A2, 4 A3, 5 A4, 6 A5, 7 A6, 8 GND1, 9 GND2, 10 B6, 11 B5, 12 B4, 13 B3, 14 B2, 15 B1, 16 VDD2

## Si8663BB-AU
designator *  value Si8663BB-AU  Reference: U
Low-Power Hex-Channel Digital Isolator, 150Mbps, 2.5-5.5V, 2.5kV isolation, Fail-Safe Low, QSOP-16; ki_keywords: 6Ch 3In 3Out Hex Digital Isolator 150Mbps AEC-Q100; ki_fp_filters: QSOP*3.9x4.9mm*P0.635mm*; Footprint: Package_SO:QSOP-16_3.9x4.9mm_P0.635mm; Datasheet: https://www.skyworksinc.com/-/media/Skyworks/SL/documents/public/data-sheets/Si866x.pdf; Description_: Low-Power Hex-Channel Digital Isolator, 150Mbps, 2.5-5.5V, 2.5kV isolation, Fail-Safe Low, QSOP-16
pins: 1 VDD1, 2 A1, 3 A2, 4 A3, 5 A4, 6 A5, 7 A6, 8 GND1, 9 GND2, 10 B6, 11 B5, 12 B4, 13 B3, 14 B2, 15 B1, 16 VDD2

## Si8663BB-B-IS1
designator *  value Si8663BB-B-IS1  Reference: U
Low-Power Hex-Channel Digital Isolator, 150Mbps, 2.5-5.5V, 2.5kV isolation, Fail-Safe Low, SOIC-16; ki_keywords: 6Ch 3In 3Out Hex Digital Isolator 150Mbps; ki_fp_filters: SOIC*3.9x9.9mm*P1.27mm*; Footprint: Package_SO:SOIC-16_3.9x9.9mm_P1.27mm; Datasheet: https://www.skyworksinc.com/-/media/Skyworks/SL/documents/public/data-sheets/Si866x.pdf; Description_: Low-Power Hex-Channel Digital Isolator, 150Mbps, 2.5-5.5V, 2.5kV isolation, Fail-Safe Low, SOIC-16
pins: 1 VDD1, 2 A1, 3 A2, 4 A3, 5 A4, 6 A5, 7 A6, 8 GND1, 9 GND2, 10 B6, 11 B5, 12 B4, 13 B3, 14 B2, 15 B1, 16 VDD2

## Si8663BB-B-IU
designator *  value Si8663BB-B-IU  Reference: U
Low-Power Hex-Channel Digital Isolator, 150Mbps, 2.5-5.5V, 2.5kV isolation, Fail-Safe Low, QSOP-16; ki_keywords: 6Ch 3In 3Out Hex Digital Isolator 150Mbps; ki_fp_filters: QSOP*3.9x4.9mm*P0.635mm*; Footprint: Package_SO:QSOP-16_3.9x4.9mm_P0.635mm; Datasheet: https://www.skyworksinc.com/-/media/Skyworks/SL/documents/public/data-sheets/Si866x.pdf; Description_: Low-Power Hex-Channel Digital Isolator, 150Mbps, 2.5-5.5V, 2.5kV isolation, Fail-Safe Low, QSOP-16
pins: 1 VDD1, 2 A1, 3 A2, 4 A3, 5 A4, 6 A5, 7 A6, 8 GND1, 9 GND2, 10 B6, 11 B5, 12 B4, 13 B3, 14 B2, 15 B1, 16 VDD2

## Si8663BC-AS1
designator *  value Si8663BC-AS1  Reference: U
Low-Power Hex-Channel Digital Isolator, 150Mbps, 2.5-5.5V, 3.75kV isolation, Fail-Safe Low, SOIC-16; ki_keywords: 6Ch 3In 3Out Hex Digital Isolator 150Mbps AEC-Q100; ki_fp_filters: SOIC*3.9x9.9mm*P1.27mm*; Footprint: Package_SO:SOIC-16_3.9x9.9mm_P1.27mm; Datasheet: https://www.skyworksinc.com/-/media/Skyworks/SL/documents/public/data-sheets/Si866x.pdf; Description_: Low-Power Hex-Channel Digital Isolator, 150Mbps, 2.5-5.5V, 3.75kV isolation, Fail-Safe Low, SOIC-16
pins: 1 VDD1, 2 A1, 3 A2, 4 A3, 5 A4, 6 A5, 7 A6, 8 GND1, 9 GND2, 10 B6, 11 B5, 12 B4, 13 B3, 14 B2, 15 B1, 16 VDD2

## Si8663BC-B-IS1
designator *  value Si8663BC-B-IS1  Reference: U
Low-Power Hex-Channel Digital Isolator, 150Mbps, 2.5-5.5V, 3.75kV isolation, Fail-Safe Low, SOIC-16; ki_keywords: 6Ch 3In 3Out Hex Digital Isolator 150Mbps; ki_fp_filters: SOIC*3.9x9.9mm*P1.27mm*; Footprint: Package_SO:SOIC-16_3.9x9.9mm_P1.27mm; Datasheet: https://www.skyworksinc.com/-/media/Skyworks/SL/documents/public/data-sheets/Si866x.pdf; Description_: Low-Power Hex-Channel Digital Isolator, 150Mbps, 2.5-5.5V, 3.75kV isolation, Fail-Safe Low, SOIC-16
pins: 1 VDD1, 2 A1, 3 A2, 4 A3, 5 A4, 6 A5, 7 A6, 8 GND1, 9 GND2, 10 B6, 11 B5, 12 B4, 13 B3, 14 B2, 15 B1, 16 VDD2

## Si8663BD-AS
designator *  value Si8663BD-AS  Reference: U
Low-Power Hex-Channel Digital Isolator, 150Mbps, 2.5-5.5V, 5kV isolation, Fail-Safe Low, SOIC-16W; ki_keywords: 6Ch 3In 3Out Hex Digital Isolator 150Mbps AEC-Q100; ki_fp_filters: SOIC*3.9x9.9mm*P1.27mm*; Footprint: Package_SO:SOIC-16_3.9x9.9mm_P1.27mm; Datasheet: https://www.skyworksinc.com/-/media/Skyworks/SL/documents/public/data-sheets/Si866x.pdf; Description_: Low-Power Hex-Channel Digital Isolator, 150Mbps, 2.5-5.5V, 5kV isolation, Fail-Safe Low, SOIC-16W
pins: 1 VDD1, 2 A1, 3 A2, 4 A3, 5 A4, 6 A5, 7 A6, 8 GND1, 9 GND2, 10 B6, 11 B5, 12 B4, 13 B3, 14 B2, 15 B1, 16 VDD2

## Si8663BD-B-IS
designator *  value Si8663BD-B-IS  Reference: U
Low-Power Hex-Channel Digital Isolator, 150Mbps, 2.5-5.5V, 5kV isolation, Fail-Safe Low, SOIC-16W; ki_keywords: 6Ch 3In 3Out Hex Digital Isolator 150Mbps; ki_fp_filters: SOIC*3.9x9.9mm*P1.27mm*; Footprint: Package_SO:SOIC-16_3.9x9.9mm_P1.27mm; Datasheet: https://www.skyworksinc.com/-/media/Skyworks/SL/documents/public/data-sheets/Si866x.pdf; Description_: Low-Power Hex-Channel Digital Isolator, 150Mbps, 2.5-5.5V, 5kV isolation, Fail-Safe Low, SOIC-16W
pins: 1 VDD1, 2 A1, 3 A2, 4 A3, 5 A4, 6 A5, 7 A6, 8 GND1, 9 GND2, 10 B6, 11 B5, 12 B4, 13 B3, 14 B2, 15 B1, 16 VDD2

## Si8663EB-AU
designator *  value Si8663EB-AU  Reference: U
Low-Power Hex-Channel Digital Isolator, 150Mbps, 2.5-5.5V, 2.5kV isolation, Fail-Safe High, QSOP-16; ki_keywords: 6Ch 3In 3Out Hex Digital Isolator 150Mbps AEC-Q100; ki_fp_filters: QSOP*3.9x4.9mm*P0.635mm*; Footprint: Package_SO:QSOP-16_3.9x4.9mm_P0.635mm; Datasheet: https://www.skyworksinc.com/-/media/Skyworks/SL/documents/public/data-sheets/Si866x.pdf; Description_: Low-Power Hex-Channel Digital Isolator, 150Mbps, 2.5-5.5V, 2.5kV isolation, Fail-Safe High, QSOP-16
pins: 1 VDD1, 2 A1, 3 A2, 4 A3, 5 A4, 6 A5, 7 A6, 8 GND1, 9 GND2, 10 B6, 11 B5, 12 B4, 13 B3, 14 B2, 15 B1, 16 VDD2

## Si8663EB-B-IU
designator *  value Si8663EB-B-IU  Reference: U
Low-Power Hex-Channel Digital Isolator, 150Mbps, 2.5-5.5V, 2.5kV isolation, Fail-Safe High, QSOP-16; ki_keywords: 6Ch 3In 3Out Hex Digital Isolator 150Mbps; ki_fp_filters: QSOP*3.9x4.9mm*P0.635mm*; Footprint: Package_SO:QSOP-16_3.9x4.9mm_P0.635mm; Datasheet: https://www.skyworksinc.com/-/media/Skyworks/SL/documents/public/data-sheets/Si866x.pdf; Description_: Low-Power Hex-Channel Digital Isolator, 150Mbps, 2.5-5.5V, 2.5kV isolation, Fail-Safe High, QSOP-16
pins: 1 VDD1, 2 A1, 3 A2, 4 A3, 5 A4, 6 A5, 7 A6, 8 GND1, 9 GND2, 10 B6, 11 B5, 12 B4, 13 B3, 14 B2, 15 B1, 16 VDD2

## Si8663EC-AS1
designator *  value Si8663EC-AS1  Reference: U
Low-Power Hex-Channel Digital Isolator, 150Mbps, 2.5-5.5V, 3.75kV isolation, Fail-Safe High, SOIC-16; ki_keywords: 6Ch 3In 3Out Hex Digital Isolator 150Mbps AEC-Q100; ki_fp_filters: SOIC*3.9x9.9mm*P1.27mm*; Footprint: Package_SO:SOIC-16_3.9x9.9mm_P1.27mm; Datasheet: https://www.skyworksinc.com/-/media/Skyworks/SL/documents/public/data-sheets/Si866x.pdf; Description_: Low-Power Hex-Channel Digital Isolator, 150Mbps, 2.5-5.5V, 3.75kV isolation, Fail-Safe High, SOIC-16
pins: 1 VDD1, 2 A1, 3 A2, 4 A3, 5 A4, 6 A5, 7 A6, 8 GND1, 9 GND2, 10 B6, 11 B5, 12 B4, 13 B3, 14 B2, 15 B1, 16 VDD2

## Si8663EC-B-IS1
designator *  value Si8663EC-B-IS1  Reference: U
Low-Power Hex-Channel Digital Isolator, 150Mbps, 2.5-5.5V, 3.75kV isolation, Fail-Safe High, SOIC-16; ki_keywords: 6Ch 3In 3Out Hex Digital Isolator 150Mbps; ki_fp_filters: SOIC*3.9x9.9mm*P1.27mm*; Footprint: Package_SO:SOIC-16_3.9x9.9mm_P1.27mm; Datasheet: https://www.skyworksinc.com/-/media/Skyworks/SL/documents/public/data-sheets/Si866x.pdf; Description_: Low-Power Hex-Channel Digital Isolator, 150Mbps, 2.5-5.5V, 3.75kV isolation, Fail-Safe High, SOIC-16
pins: 1 VDD1, 2 A1, 3 A2, 4 A3, 5 A4, 6 A5, 7 A6, 8 GND1, 9 GND2, 10 B6, 11 B5, 12 B4, 13 B3, 14 B2, 15 B1, 16 VDD2

## Si8663ED-AS
designator *  value Si8663ED-AS  Reference: U
Low-Power Hex-Channel Digital Isolator, 150Mbps, 2.5-5.5V, 5kV isolation, Fail-Safe High, SOIC-16W; ki_keywords: 6Ch 3In 3Out Hex Digital Isolator 150Mbps AEC-Q100; ki_fp_filters: SOIC*7.5x10.3mm*P1.27mm*; Footprint: Package_SO:SOIC-16W_7.5x10.3mm_P1.27mm; Datasheet: https://www.skyworksinc.com/-/media/Skyworks/SL/documents/public/data-sheets/Si866x.pdf; Description_: Low-Power Hex-Channel Digital Isolator, 150Mbps, 2.5-5.5V, 5kV isolation, Fail-Safe High, SOIC-16W
pins: 1 VDD1, 2 A1, 3 A2, 4 A3, 5 A4, 6 A5, 7 A6, 8 GND1, 9 GND2, 10 B6, 11 B5, 12 B4, 13 B3, 14 B2, 15 B1, 16 VDD2

## Si8663ED-B-IS
designator *  value Si8663ED-B-IS  Reference: U
Low-Power Hex-Channel Digital Isolator, 150Mbps, 2.5-5.5V, 5kV isolation, Fail-Safe High, SOIC-16W; ki_keywords: 6Ch 3In 3Out Hex Digital Isolator 150Mbps; ki_fp_filters: SOIC*7.5x10.3mm*P1.27mm*; Footprint: Package_SO:SOIC-16W_7.5x10.3mm_P1.27mm; Datasheet: https://www.skyworksinc.com/-/media/Skyworks/SL/documents/public/data-sheets/Si866x.pdf; Description_: Low-Power Hex-Channel Digital Isolator, 150Mbps, 2.5-5.5V, 5kV isolation, Fail-Safe High, SOIC-16W
pins: 1 VDD1, 2 A1, 3 A2, 4 A3, 5 A4, 6 A5, 7 A6, 8 GND1, 9 GND2, 10 B6, 11 B5, 12 B4, 13 B3, 14 B2, 15 B1, 16 VDD2

## TCMT1100
designator *  value TCMT1100  Reference: U
Optocoupler, Vce 70V, CTR 50-600%, Viso 3750V (RMS), SOP-4; ki_keywords: NPN DC opto; ki_fp_filters: SOP*4.4x2.6mm*P1.27mm*; Footprint: Package_SO:SOP-4_4.4x2.6mm_P1.27mm; Datasheet: http://www.vishay.com/docs/83510/tcmt1100.pdf; Description_: Optocoupler, Vce 70V, CTR 50-600%, Viso 3750V (RMS), SOP-4
pins: 1, 2, 3, 4

## TCMT1101
designator *  value TCMT1101  Reference: U
Optocoupler, Vce 70V, CTR 40-80%, Viso 3750V (RMS), SOP-4; ki_keywords: NPN DC opto; ki_fp_filters: SOP*4.4x2.6mm*P1.27mm*; Footprint: Package_SO:SOP-4_4.4x2.6mm_P1.27mm; Datasheet: http://www.vishay.com/docs/83510/tcmt1100.pdf; Description_: Optocoupler, Vce 70V, CTR 40-80%, Viso 3750V (RMS), SOP-4
pins: 1, 2, 3, 4

## TCMT1102
designator *  value TCMT1102  Reference: U
Optocoupler, Vce 70V, CTR 63-125%, Viso 3750V (RMS), SOP-4; ki_keywords: NPN DC opto; ki_fp_filters: SOP*4.4x2.6mm*P1.27mm*; Footprint: Package_SO:SOP-4_4.4x2.6mm_P1.27mm; Datasheet: http://www.vishay.com/docs/83510/tcmt1100.pdf; Description_: Optocoupler, Vce 70V, CTR 63-125%, Viso 3750V (RMS), SOP-4
pins: 1, 2, 3, 4

## TCMT1103
designator *  value TCMT1103  Reference: U
Optocoupler, Vce 70V, CTR 100-200%, Viso 3750V (RMS), SOP-4; ki_keywords: NPN DC opto; ki_fp_filters: SOP*4.4x2.6mm*P1.27mm*; Footprint: Package_SO:SOP-4_4.4x2.6mm_P1.27mm; Datasheet: http://www.vishay.com/docs/83510/tcmt1100.pdf; Description_: Optocoupler, Vce 70V, CTR 100-200%, Viso 3750V (RMS), SOP-4
pins: 1, 2, 3, 4

## TCMT1104
designator *  value TCMT1104  Reference: U
Optocoupler, Vce 70V, CTR 160-320%, Viso 3750V (RMS), SOP-4; ki_keywords: NPN DC opto; ki_fp_filters: SOP*4.4x2.6mm*P1.27mm*; Footprint: Package_SO:SOP-4_4.4x2.6mm_P1.27mm; Datasheet: http://www.vishay.com/docs/83510/tcmt1100.pdf; Description_: Optocoupler, Vce 70V, CTR 160-320%, Viso 3750V (RMS), SOP-4
pins: 1, 2, 3, 4

## TCMT1105
designator *  value TCMT1105  Reference: U
Optocoupler, Vce 70V, CTR 50-150%, Viso 3750V (RMS), SOP-4; ki_keywords: NPN DC opto; ki_fp_filters: SOP*4.4x2.6mm*P1.27mm*; Footprint: Package_SO:SOP-4_4.4x2.6mm_P1.27mm; Datasheet: http://www.vishay.com/docs/83510/tcmt1100.pdf; Description_: Optocoupler, Vce 70V, CTR 50-150%, Viso 3750V (RMS), SOP-4
pins: 1, 2, 3, 4

## TCMT1106
designator *  value TCMT1106  Reference: U
Optocoupler, Vce 70V, CTR 100-300%, Viso 3750V (RMS), SOP-4; ki_keywords: NPN DC opto; ki_fp_filters: SOP*4.4x2.6mm*P1.27mm*; Footprint: Package_SO:SOP-4_4.4x2.6mm_P1.27mm; Datasheet: http://www.vishay.com/docs/83510/tcmt1100.pdf; Description_: Optocoupler, Vce 70V, CTR 100-300%, Viso 3750V (RMS), SOP-4
pins: 1, 2, 3, 4

## TCMT1107
designator *  value TCMT1107  Reference: U
Optocoupler, Vce 70V, CTR 80-160%, Viso 3750V (RMS), SOP-4; ki_keywords: NPN DC opto; ki_fp_filters: SOP*4.4x2.6mm*P1.27mm*; Footprint: Package_SO:SOP-4_4.4x2.6mm_P1.27mm; Datasheet: http://www.vishay.com/docs/83510/tcmt1100.pdf; Description_: Optocoupler, Vce 70V, CTR 80-160%, Viso 3750V (RMS), SOP-4
pins: 1, 2, 3, 4

## TCMT1108
designator *  value TCMT1108  Reference: U
Optocoupler, Vce 70V, CTR 130-260%, Viso 3750V (RMS), SOP-4; ki_keywords: NPN DC opto; ki_fp_filters: SOP*4.4x2.6mm*P1.27mm*; Footprint: Package_SO:SOP-4_4.4x2.6mm_P1.27mm; Datasheet: http://www.vishay.com/docs/83510/tcmt1100.pdf; Description_: Optocoupler, Vce 70V, CTR 130-260%, Viso 3750V (RMS), SOP-4
pins: 1, 2, 3, 4

## TCMT1109
designator *  value TCMT1109  Reference: U
Optocoupler, Vce 70V, CTR 200-400%, Viso 3750V (RMS), SOP-4; ki_keywords: NPN DC opto; ki_fp_filters: SOP*4.4x2.6mm*P1.27mm*; Footprint: Package_SO:SOP-4_4.4x2.6mm_P1.27mm; Datasheet: http://www.vishay.com/docs/83510/tcmt1100.pdf; Description_: Optocoupler, Vce 70V, CTR 200-400%, Viso 3750V (RMS), SOP-4
pins: 1, 2, 3, 4

## TCMT1600
designator *  value TCMT1600  Reference: U
AC/DC Phototransistor Optocoupler, Vce 70V, CTR 80-300%, SOP4; ki_keywords: NPN AC DC Phototransistor Optocoupler; ki_fp_filters: SOP*4*4.4x2.6mm*P1.27mm*; Footprint: Package_SO:SOP-4_4.4x2.6mm_P1.27mm; Datasheet: http://www.vishay.com/docs/83512/tcmt1600.pdf; Description_: AC/DC Phototransistor Optocoupler, Vce 70V, CTR 80-300%, SOP4
pins: 1, 2, 3, 4

## TCMT4100
designator *  value TCMT4100  Reference: U
Quad Optocoupler, Vce 70V, CTR 50-600%, Viso 3750V (RMS), SOP-16; ki_keywords: NPN DC opto; ki_fp_filters: SOP*4.4x10.4mm*P1.27mm*; Footprint: Package_SO:SOP-16_4.4x10.4mm_P1.27mm; Datasheet: https://www.vishay.com/docs/84181/tcmt4100.pdf; Description_: Quad Optocoupler, Vce 70V, CTR 50-600%, Viso 3750V (RMS), SOP-16
part A pins: 1, 2, 15, 16
part B pins: 3, 4, 13, 14
part C pins: 5, 6, 11, 12
part D pins: 7, 8, 9, 10

## TCMT4106
designator *  value TCMT4106  Reference: U
Quad Optocoupler, Vce 70V, CTR 100-300%, Viso 3750V (RMS), SOP-16; ki_keywords: NPN DC opto; ki_fp_filters: SOP*4.4x10.4mm*P1.27mm*; Footprint: Package_SO:SOP-16_4.4x10.4mm_P1.27mm; Datasheet: https://www.vishay.com/docs/84181/tcmt4100.pdf; Description_: Quad Optocoupler, Vce 70V, CTR 100-300%, Viso 3750V (RMS), SOP-16
part A pins: 1, 2, 15, 16
part B pins: 3, 4, 13, 14
part C pins: 5, 6, 11, 12
part D pins: 7, 8, 9, 10

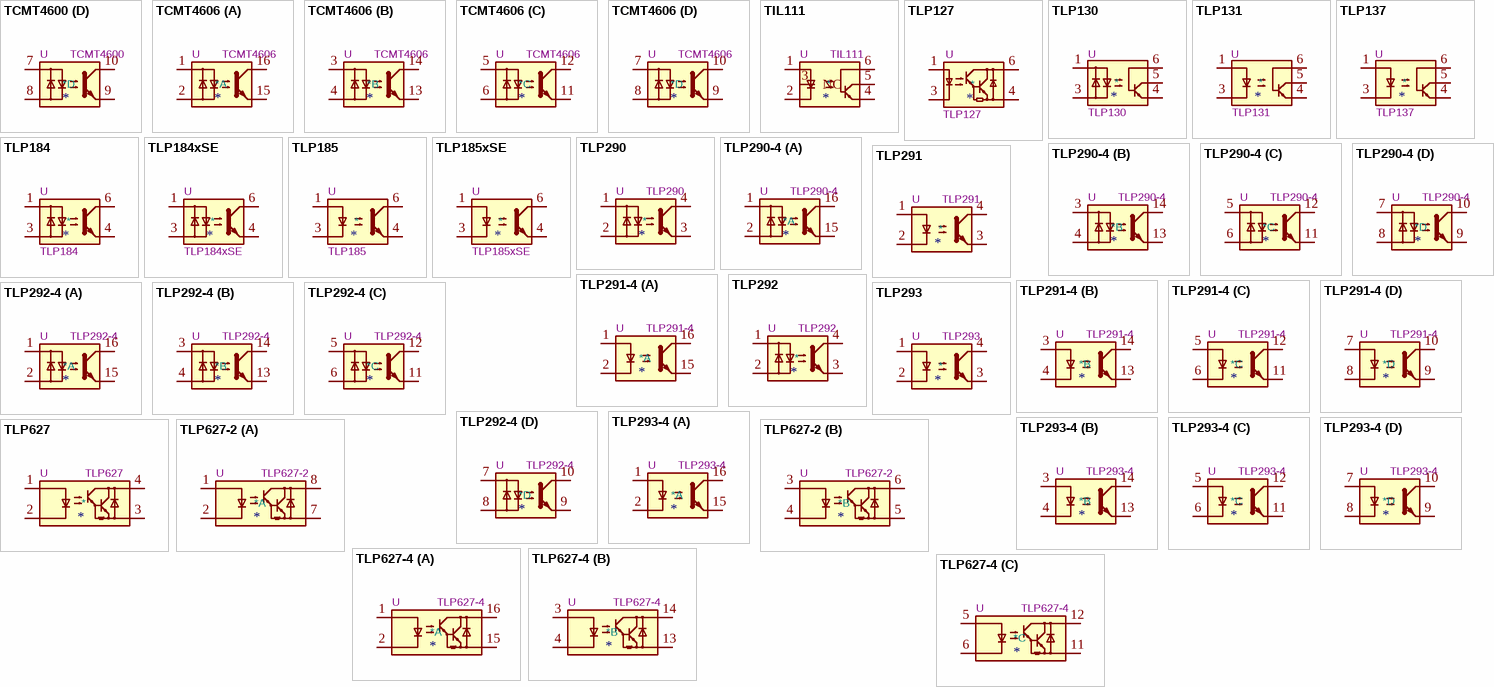
[diagram p10: symbols TCMT4600 to TLP627-4]

## TCMT4600
designator *  value TCMT4600  Reference: U
Quad AC/DC Phototransistor Optocoupler, Vce 70V, CTR 80-300%, SOP16; ki_keywords: NPN AC DC Quad Phototransistor Optocoupler; ki_fp_filters: SOP*4.55x10.3mm*P1.27mm*; Footprint: Package_SO:SOP-16_4.55x10.3mm_P1.27mm; Datasheet: http://www.vishay.com/docs/83512/tcmt1600.pdf; Description_: Quad AC/DC Phototransistor Optocoupler, Vce 70V, CTR 80-300%, SOP16
part A pins: 1, 2, 15, 16
part B pins: 3, 4, 13, 14
part C pins: 5, 6, 11, 12
part D pins: 7, 8, 9, 10

## TCMT4606
designator *  value TCMT4606  Reference: U
Quad AC/DC Phototransistor Optocoupler, Vce 70V, CTR 100-300%, SOP16; ki_keywords: NPN AC DC Quad Phototransistor Optocoupler; ki_fp_filters: SOP*4.55x10.3mm*P1.27mm*; Footprint: Package_SO:SOP-16_4.55x10.3mm_P1.27mm; Datasheet: http://www.vishay.com/docs/83512/tcmt1600.pdf; Description_: Quad AC/DC Phototransistor Optocoupler, Vce 70V, CTR 100-300%, SOP16
part A pins: 1, 2, 15, 16
part B pins: 3, 4, 13, 14
part C pins: 5, 6, 11, 12
part D pins: 7, 8, 9, 10

## TIL111
designator *  value TIL111  Reference: U
DC Optocoupler, Phototransistor NPN, DIP6; ki_keywords: NPN DC Optocoupler Base Connected; ki_fp_filters: DIP*W7.62mm*; Footprint: Package_DIP:DIP-6_W7.62mm; Datasheet: https://www.egr.msu.edu/eceshop/Parts_Inventory/datasheets/til111.pdf; Description_: DC Optocoupler, Phototransistor NPN, DIP6
pins: 1, 2, 3 NC, 4, 5, 6

## TLP127
designator *  value TLP127  Reference: U
DC Darlington Optocoupler, Vce 300V, CTR 1000%, SOIC-4-6 (MFSOP-4-6); ki_keywords: NPN Darlington DC Optocoupler; ki_fp_filters: Toshiba?SOIC*6?4.4x3.6mm?P1.27mm*; Footprint: Package_SO:Toshiba_SOIC-4-6_4.4x3.6mm_P1.27mm; Datasheet: https://toshiba.semicon-storage.com/info/docget.jsp?did=16902&prodName=TLP127; Description_: DC Darlington Optocoupler, Vce 300V, CTR 1000%, SOIC-4-6 (MFSOP-4-6)
pins: 1, 3, 4, 6

## TLP130
designator *  value TLP130  Reference: U
AC DC Optocoupler Base Connected, Vce 80V, CTR 50-100%, SOIC-5-6 (MFSOP-5-6); ki_keywords: NPN AC DC Optocoupler Base Connected; ki_fp_filters: Toshiba?SOIC*6?4.4x3.6mm?P1.27mm*; Footprint: Package_SO:Toshiba_SOIC-5-6_4.4x3.6mm_P1.27mm; Datasheet: https://toshiba.semicon-storage.com/info/docget.jsp?did=16740&prodName=TLP130; Description_: AC DC Optocoupler Base Connected, Vce 80V, CTR 50-100%, SOIC-5-6 (MFSOP-5-6)
pins: 1, 3, 4, 5, 6